# Altium footprint library DIODE TVS SC1103C-01UTG.PcbLib: 1 footprints
Each footprint in its own frame and in the unit in brackets; x right, y up, seen from the top. Pads: shape width x height; smd on the part's side, far side on the other; paste and mask are expansions set on the pad; w line width, h text height; cw(c..) or ccw(c..) is an arc to the next point about the centre after c.
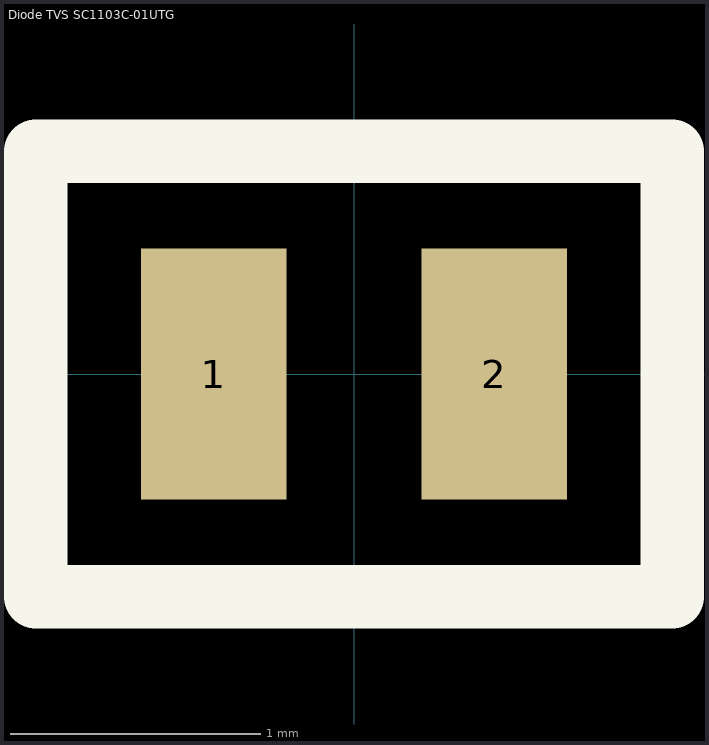
[diagram p0: the footprint, top view; thin cyan lines are the x and y axes]

## Diode TVS SC1103C-01UTG [mm]
pads (2):
  rect 0.579x1.001 smd: 1(-0.56,0) 2(0.56,0)
Top Overlay:
  lines w0.254: -1.27,-0.889 1.27,-0.889 1.27,0.889 0.23,0.889 -1.27,0.889 -1.27,-0.889
3D body "SC1103C-01UTG.SLDPRT": height 0.55, standoff 0.01, extent -0.8,-0.5 0.8,0.5